# Altium schematic symbol library display_mux.SchLib: 2 symbols
Pins are listed as number, name and electrical type; pins without a type are passive.

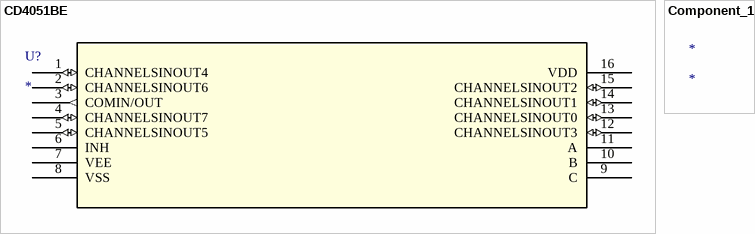
[diagram p0: symbols CD4051BE to Component_1]

## CD4051BE
designator U?
Imported; Manufacturer_Part_Number: CD4051BE; Vendor: Texas Instruments; Section: Switches and Multiplexers; C: Copyright (C) 2015 Accelerated Designs. All rights reserved; Family: Analogue Switch Multiplexer; Manufacturer_Name: Texas Instruments; Copyright: Copyright (C) 2015 Accelerated Designs. All rights reserved; RS_Part_Number: 5036098; Value: Value; Type: Type; RefDes: RefDes
footprint N16
pins: 1 CHANNELSINOUT4 (io), 2 CHANNELSINOUT6 (io), 3 COMIN/OUT (out), 4 CHANNELSINOUT7 (io), 5 CHANNELSINOUT5 (io), 6 INH, 7 VEE (power), 8 VSS (power), 9 C, 10 B, 11 A, 12 CHANNELSINOUT3 (io), 13 CHANNELSINOUT0 (io), 14 CHANNELSINOUT1 (io), 15 CHANNELSINOUT2 (io), 16 VDD (power)

## Component_1
designator *